# EAGLE library part EC12E20-24P24C-SW (library EC12E20-24P24C-SW)
Encoder: incremental; THT; 24imp/revol; Pos: 24; two phase A and B Source: Datasheet <https://www.tme.eu/Document/3355ee49dae2859b0bf824db7ca698f7/EC12E20-24P24C-SW.pdf>
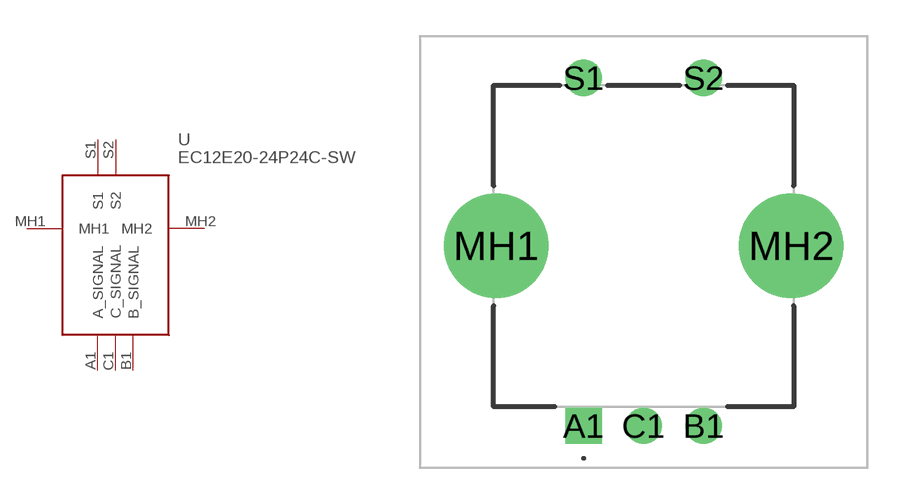
[diagram p0: symbol with the pads of EC12E2024P24CSW; footprint EC12E2024P24CSW]

Designator prefix U

## EC12E20-24P24C-SW (Description: Encoder: incremental; THT; 24imp/revol; Pos: 24; two phase A and B; Height: 20mm; Manufacturer_Name: SRPASSIVES; Manufacturer_Part_Number: EC12E20-24P24C-SW)  [EC12E2024P24CSW]
A1  A_SIGNAL
B1  B_SIGNAL
C1  C_SIGNAL
MH1  MH1
MH2  MH2
S1  S1
S2  S2

## Footprint EC12E2024P24CSW (pad centres in mm)
EC12E20-24P24C-SW-2.1
drill 1 pad 1.5 square: A1 0,0
drill 1 pad 1.5: B1 5,0; C1 2.5,0; S1 0,14.5; S2 5,14.5
drill 2.9 pad 4.35: MH1 -3.65,7.5; MH2 8.65,7.5